# EAGLE library part SN75468DR (library SSW-130-01-G-S)
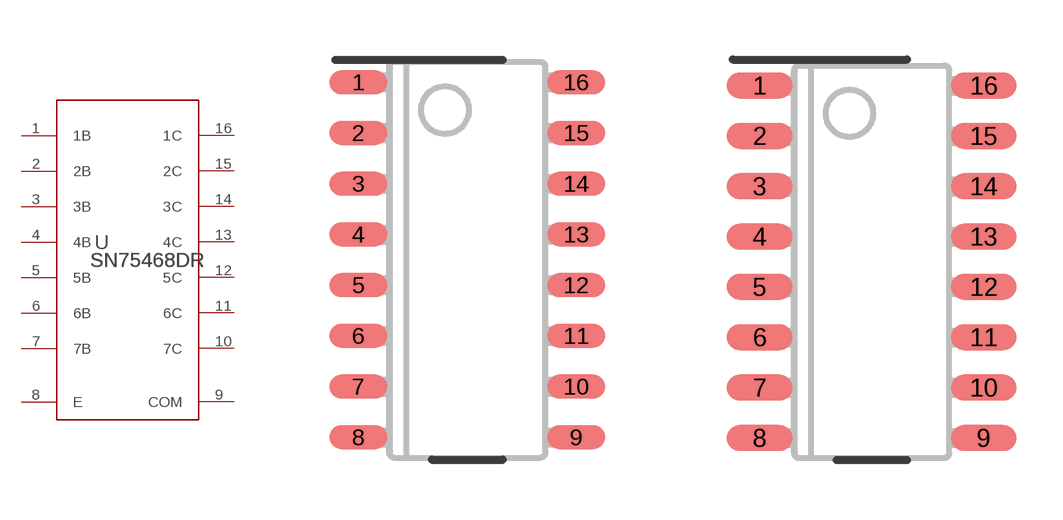
[diagram p5: symbol with the pads of D0016A_N; footprints D0016A_N, D0016A_M]

Designator prefix U

## SN75468DR (COPYRIGHT: Copyright (C) 2024 Ultra Librarian. All rights reserved.; MANUFACTURER_PART_NUMBER: SN75468DR; MFR_NAME: Texas Instruments; REFDES: RefDes; TYPE: TYPE)  [D0016A_N]
1  1B  in
2  2B  in
3  3B  in
4  4B  in
5  5B  in
6  6B  in
7  7B  in
8  E  pwr
9  COM
10  7C  out
11  6C  out
12  5C  out
13  4C  out
14  3C  out
15  2C  out
16  1C  out

## SN75468DRD0016A_M (COPYRIGHT: Copyright (C) 2024 Ultra Librarian. All rights reserved.; MANUFACTURER_PART_NUMBER: SN75468DR; MFR_NAME: Texas Instruments; REFDES: RefDes; TYPE: TYPE)  [D0016A_M]
Pads as for D0016A_N

## SN75468DRD0016A_L (COPYRIGHT: Copyright (C) 2024 Ultra Librarian. All rights reserved.; MANUFACTURER_PART_NUMBER: SN75468DR; MFR_NAME: Texas Instruments; REFDES: RefDes; TYPE: TYPE)  [D0016A_L]
Pads as for D0016A_N

## Footprint D0016A_N (pad centres in mm)
smd 1.45 x 0.6: 1 -2.725,4.445; 2 -2.725,3.175; 3 -2.725,1.905; 4 -2.725,0.635; 5 -2.725,-0.635; 6 -2.725,-1.905; 7 -2.725,-3.175; 8 -2.725,-4.445; 9 2.725,-4.445; 10 2.725,-3.175; 11 2.725,-1.905; 12 2.725,-0.635; 13 2.725,0.635; 14 2.725,1.905; 15 2.725,3.175; 16 2.725,4.445

## Footprint D0016A_M (pad centres in mm)
smd 1.65 x 0.65: 1 -2.825,4.445; 2 -2.825,3.175; 3 -2.825,1.905; 4 -2.825,0.635; 5 -2.825,-0.635; 6 -2.825,-1.905; 7 -2.825,-3.175; 8 -2.825,-4.445; 9 2.825,-4.445; 10 2.825,-3.175; 11 2.825,-1.905; 12 2.825,-0.635; 13 2.825,0.635; 14 2.825,1.905; 15 2.825,3.175; 16 2.825,4.445

## Footprint D0016A_L (pad centres in mm)
smd 1.25 x 0.55: 1 -2.625,4.445; 2 -2.625,3.175; 3 -2.625,1.905; 4 -2.625,0.635; 5 -2.625,-0.635; 6 -2.625,-1.905; 7 -2.625,-3.175; 8 -2.625,-4.445; 9 2.625,-4.445; 10 2.625,-3.175; 11 2.625,-1.905; 12 2.625,-0.635; 13 2.625,0.635; 14 2.625,1.905; 15 2.625,3.175; 16 2.625,4.445